# Altium footprint library PCB - CAPACITOR - FILM - CAP FILM 2416.PCBLIB: 1 footprints
Each footprint in its own frame and in the unit in brackets; x right, y up, seen from the top. Pads: shape width x height; smd on the part's side, far side on the other; paste and mask are expansions set on the pad; w line width, h text height; cw(c..) or ccw(c..) is an arc to the next point about the centre after c.
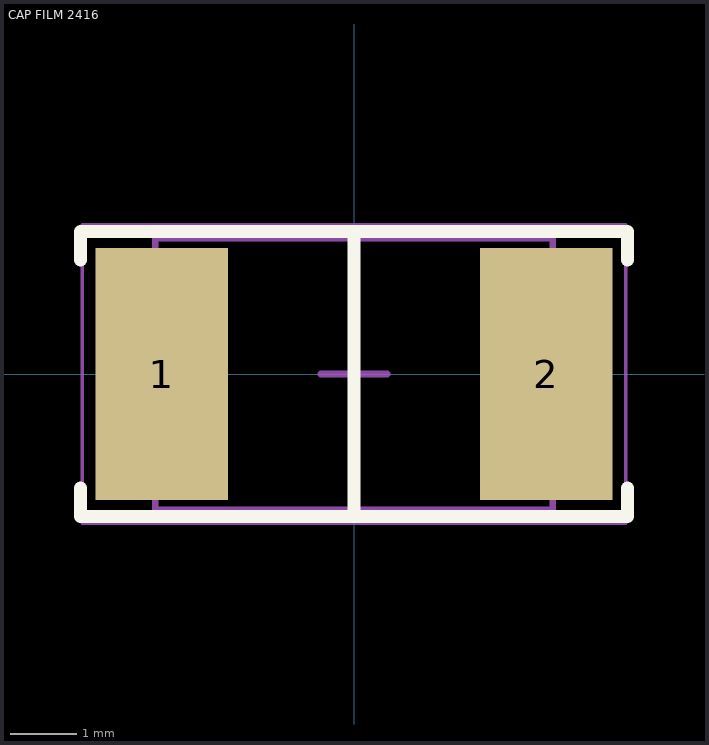
[diagram p0: the footprint, top view; thin cyan lines are the x and y axes]

## CAP FILM 2416 [mm] "D1, Film Capacitor PPS, 2-Leads, Body 6.00x4.10mm, IPC Medium Density"
height 1.8
pads (2):
  rect 2x3.8 smd: 1(-2.9,0) 2(2.9,0)
Top Overlay:
  lines w0.2: -4.125,-1.725 -4.125,-2.15 4.125,-2.15 4.125,-1.725 ; -4.125,1.725 -4.125,2.15 4.125,2.15 4.125,1.725 ; 0,-2.15 0,2.15
Mechanical 13:
  lines w0.1: -3,-2.05 -3,2.05 3,2.05 3,-2.05 -3,-2.05
Mechanical 15:
  lines w0.05: -4.1,-2.25 -4.1,2.25 4.1,2.25 4.1,-2.25 -4.1,-2.25
  lines w0.1: -0.5,0 0.5,0 ; 0,-0.5 0,0.5
3D body "CAP FILM - 2416.step": height 2.2, standoff 0, extent -3,-2.05 3,2.05